# EAGLE library part MAX16054 (library Maxim Integrated)
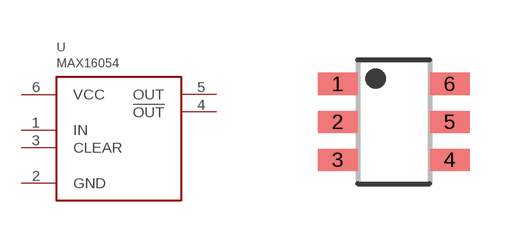
[diagram p0: symbol with the pads of SOT23-6; footprint SOT23-6]

Designator prefix U

## MAX16054  [SOT23-6]
1  IN
2  GND
3  CLEAR
4  !OUT
5  OUT
6  VCC

## Footprint SOT23-6 (pad centres in mm)
smd 1 x 0.55: 1 -1.4,0.95; 2 -1.4,0; 3 -1.4,-0.95; 4 1.4,-0.95; 5 1.4,0; 6 1.4,0.95